# EAGLE library part ACS712 (library AlienWhoopV3)
ACS712 current sensor
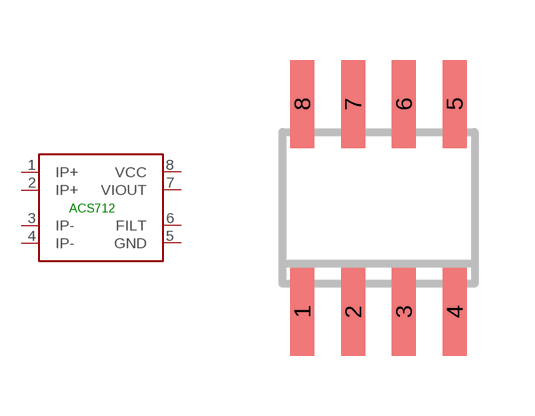
[diagram p4: symbol with the pads of SOIC8; footprint SOIC8]

Designator prefix -

## ACS712 (MF: Allegro; MPN: ACS712)  [SOIC8]
1  IP+
2  IP+
3  IP-
4  IP-
5  GND  pwr
6  FILT
7  VIOUT  out
8  VCC  pwr

## Footprint SOIC8 (pad centres in mm)
Small Outline IC
smd 0.6 x 2.2: 1 -1.905,-2.6; 2 -0.635,-2.6; 3 0.635,-2.6; 4 1.905,-2.6; 5 1.905,2.6; 6 0.635,2.6; 7 -0.635,2.6; 8 -1.905,2.6